# EAGLE library part DM3AT-SF-PEJM5 (library nma-eagle)
DM3 RA SMT microSD memory card push/push DM3 RA SMT microSD memory card push/push Source: Datasheet <https://www.hirose.com/product/en/download_file/key_name/DM3AT-SF-PEJM5/category/Drawing (2D)/doc_file_id/44099/?file_category_id=6&item_id=06090031000&is_series=>
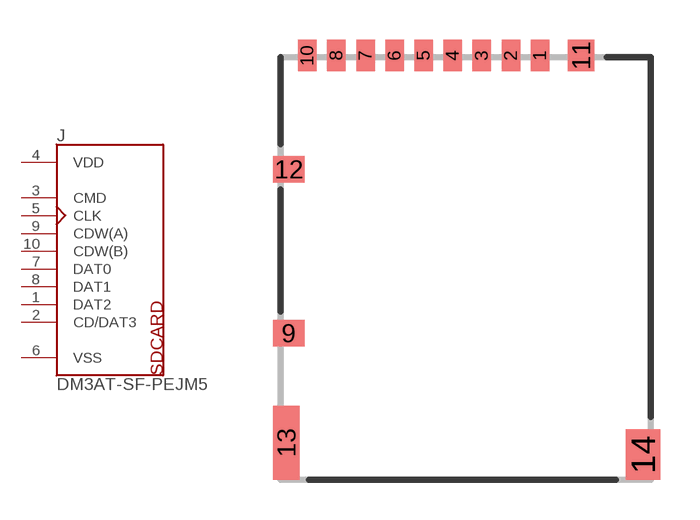
[diagram p5: symbol with the pads of DM3AT-SF-PEJM5_1; footprint DM3AT-SF-PEJM5_1]

Designator prefix J

## DM3AT-SF-PEJM5 (DESCRIPTION: DM3 RA SMT microSD memory card push/push DM3 RA SMT microSD memory card push/push; HEIGHT: mm; MANUFACTURER_NAME: Hirose; MANUFACTURER_PART_NUMBER: DM3AT-SF-PEJM5; MOUSER_PART_NUMBER: 798-DM3AT-SF-PEJM5; MOUSER_PRICE-STOCK: https://www.mouser.co.uk/ProductDetail/Hirose-Connector/DM3AT-SF-PEJM5?qs=LZSZKJVF%252B2WTDKp%252BR7IYAQ%3D%3D)  [DM3AT-SF-PEJM5_1]
1  DAT2
2  CD/DAT3
3  CMD
4  VDD
5  CLK
6  VSS
7  DAT0
8  DAT1
9  CDW(A)
10  CDW(B)

## Footprint DM3AT-SF-PEJM5_1 (pad centres in mm)
DM3AT-SF-PEJM5_1
smd 0.7 x 1.2: 1 -4.191,0.057; 2 -5.291,0.057; 3 -6.391,0.057; 4 -7.491,0.057; 5 -8.591,0.057; 6 -9.691,0.057; 7 -10.791,0.057; 8 -11.891,0.057; 10 -12.991,0.057
smd 1.2 x 1: 9 -13.691,-10.443; 12 -13.691,-4.243
smd 1 x 1.2: 11 -2.641,0.057
smd 1 x 2.8: 13 -13.791,-14.593
smd 1.3 x 1.9: 14 -0.291,-15.043